# Altium integrated library General.IntLib: 102 symbols (part 3 of 3)
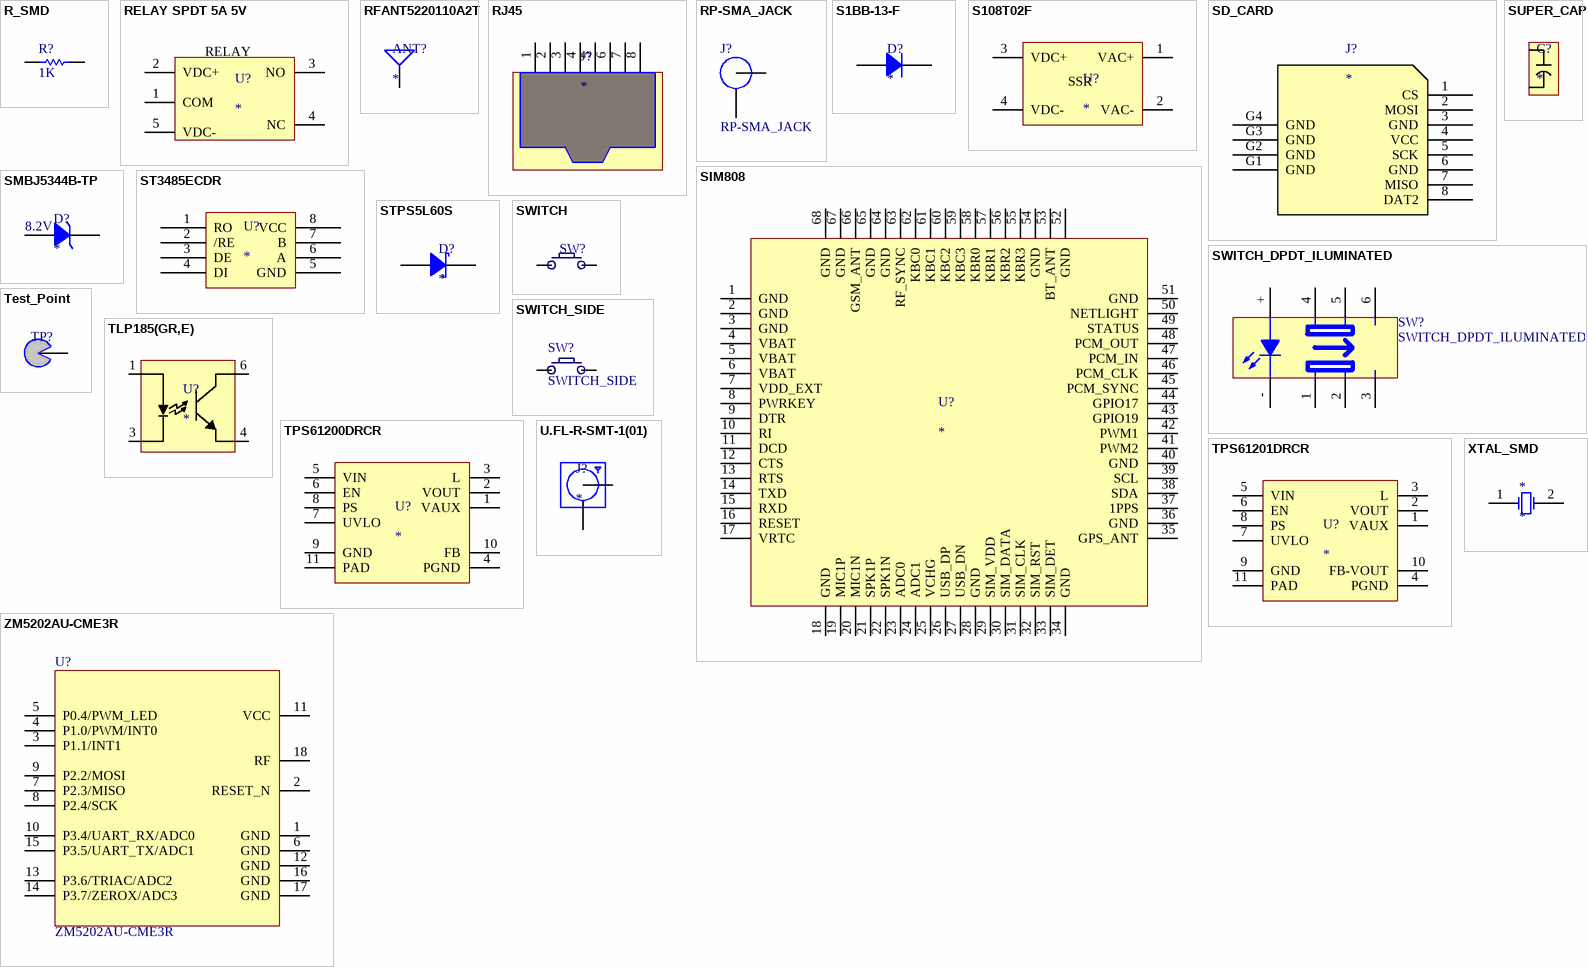
[diagram p5: symbols R_SMD to ZM5202AU-CME3R]

## TPS61200DRCR
designator U?
IC REG BOOST ADJ 1.2A SYNC 10SON; Manufacturer: Texas Instruments; Manufacturer Part Number: TPS61200DRCR; Function: Step-Up; Output Configuration: Positive; Output Type: Adjustable; Number of Outputs: 1; Voltage - Input (Min): 0.3V; Voltage - Input (Max): 5.5V; Voltage - Output (Min/Fixed): 1.8V; Current - Output: 1.2A (Switch); Frequency - Switching: 1.25MHz ~ 1.65MHz; Synchronous Rectifier: Yes; Supplier 1: Digi-Key; RoHS: RoHS Compliant; Category: Integrated Circuits (ICs); Stock 1: 6216; Pricing 1: 1=2.74, 10=2.457, 100=1.971, 500=1.62, 1000=1.125 (USD); Packaging: Cut Tape (CT); Topology: Boost; Voltage - Output (Max): 5.5V; Operating Temperature: -40°C ~ 85°C (TA); Mounting Type: Surface Mount; Package / Case: 10-VFDFN Exposed Pad; Supplier Device Package: 10-VSON (3x3); ComponentLink1URL: http://www.ti.com/lit/ds/symlink/tps61202.pdf; ComponentLink1Description: http://www.ti.com/lit/ds/symlink/tps61202.pdf; Supplier Part Number 1: 296-27017-1-ND
footprint VSON10_M (SON, 10-Leads, Body 3.00x3.00mm, Pitch 0.50mm, Thermal Pad 2.40x1.49mm, IPC Low Density)
pins: 1 VAUX, 2 VOUT, 3 L, 4 PGND, 5 VIN, 6 EN, 7 UVLO, 8 PS, 9 GND, 10 FB, 11 PAD

## TPS61201DRCR
designator U?
IC REG BST 3.3V 1.2A SYNC 10SON; Manufacturer: Texas Instruments; Manufacturer Part Number: TPS61201DRCR; Function: Step-Up; Output Configuration: Positive; Topology: Boost; Output Type: Fixed; Number of Outputs: 1; Voltage - Input (Min): 0.3V; Voltage - Input (Max): 5.5V; Current - Output: 1.2A (Switch); Frequency - Switching: 1.25MHz ~ 1.65MHz; Synchronous Rectifier: Yes; Supplier 1: Digi-Key; RoHS: RoHS Compliant; Category: Integrated Circuits (ICs); Stock 1: 0; Pricing 1: 1=2.74, 10=2.457, 100=1.971, 500=1.62, 1000=1.125 (USD); Packaging: Cut Tape (CT); Voltage - Output (Min/Fixed): 3.3V; Voltage - Output (Max): -; Operating Temperature: -40°C ~ 85°C (TA); Mounting Type: Surface Mount; Package / Case: 10-VFDFN Exposed Pad; Supplier Device Package: 10-VSON (3x3); ComponentLink1URL: http://www.ti.com/lit/ds/symlink/tps61202.pdf; ComponentLink1Description: http://www.ti.com/lit/ds/symlink/tps61202.pdf; Supplier Part Number 1: 296-44338-1-ND
footprint VSON10_M (SON, 10-Leads, Body 3.00x3.00mm, Pitch 0.50mm, Thermal Pad 2.40x1.49mm, IPC Low Density)
pins: 1 VAUX, 2 VOUT, 3 L, 4 PGND, 5 VIN, 6 EN, 7 UVLO, 8 PS, 9 GND, 10 FB-VOUT, 11 PAD

## U.FL-R-SMT-1(01)
designator J?
CONN UMC JACK STR 50 OHM SMD; Manufacturer: Hirose Electric Co Ltd; Manufacturer Part Number: U.FL-R-SMT-1(01); Connector Style: U.FL, Ultra Miniature Coaxial; Connector Type: Receptacle, Male Pin; Contact Termination: Solder; Impedance: 50 Ohm; Frequency - Max: 6GHz; Body Material: Phosphor Bronze; Body Finish: Silver; Center Contact Material: Brass; Center Contact Plating: Gold; Dielectric Material: Liquid Crystal Polymer (LCP); Supplier 1: Digi-Key; RoHS: RoHS Compliant; Category: Connectors, Interconnects; Stock 1: 8912; Pricing 1: 1=1.28, 10=1.122, 25=1.056, 50=1.012, 100=0.968, 250=0.88, 500=0.792, 1000=0.704, 2500=0.638 (USD); Packaging: Bulk; Shield Termination: Solder; Mounting Type: Surface Mount; Cable Group: -; Fastening Type: Snap-On; Features: -; Housing Color: Beige; Ingress Protection: -; Voltage Rating: -; Operating Temperature: -40°C ~ 90°C; ComponentLink1URL: http://media.digikey.com/pdf/Data%20Sheets/Hirose%20PDFs/UFL%20Series.pdf; ComponentLink1Description: http://media.digikey.com/pdf/Data%20Sheets/Hirose%20PDFs/UFL%20Series.pdf; Supplier Part Number 1: H122041-ND
footprint UFL-Hirose
pins: 0 GND, 1 ANTENNA

## XTAL_SMD
designator *
footprint XTAL_SMD-3 (Xtal smd for cilindrical crystal)
pins: 1 OSC1, 2 OSC2

## ZM5202AU-CME3R
designator U?
RF MODULE ZM5202; Manufacturer: Sigma Designs Inc; Frequency: 908MHz; Data Rate (Max): 100kbps; Modulation or Protocol: Z-Wave® / ITU-T G.9959; Power - Output: 1dBm; Sensitivity: -102dBm; Voltage - Supply: 2.3 V ~ 3.6 V; Current - Receiving: 30mA; Current - Transmitting: 36mA @ 0dBm; Data Interface: PCB, Surface Mount; Memory Size: 128kB Flash, 16kB RAM; Supplier 1: Digi-Key; Manufacturer Part Number: ZM5202AU-CME3R; RoHS: RoHS Compliant; Category: RF/IF and RFID; Stock 1: 73256; Pricing 1: 1=12.55, 25=11.5512, 100=10.0621, 500=6.5049 (USD); Packaging: Cut Tape (CT); Applications: General Purpose; Antenna Connector: PCB, Surface Mount; Operating Temperature: -10°C ~ 85°C; Package / Case: Module; ComponentLink1URL: http://z-wave.sigmadesigns.com/docs/brochures/ZM5202_br.pdf; ComponentLink1Description: http://z-wave.sigmadesigns.com/docs/brochures/ZM5202_br.pdf; Supplier Part Number 1: 703-1072-1-ND
footprint ZM5202
pins: 1 GND, 2 RESET_N, 3 P1.1/INT1, 4 P1.0/PWM/INT0, 5 P0.4/PWM_LED, 6 GND, 7 P2.3/MISO, 8 P2.4/SCK, 9 P2.2/MOSI, 10 P3.4/UART_RX/ADC0, 11 VCC, 12 GND, 13 P3.6/TRIAC/ADC2, 14 P3.7/ZEROX/ADC3, 15 P3.5/UART_TX/ADC1, 16 GND, 17 GND, 18 RF


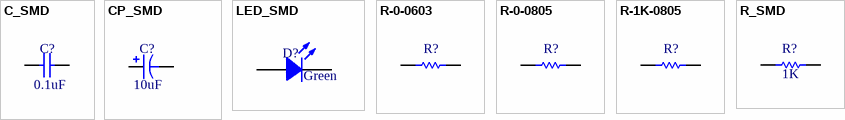
[diagram p3: symbols C_SMD to R_SMD]

## C_SMD
designator C?, comment 0.1uF
Value: 0.1uF
footprint C0603_L (Chip Capacitor, 2-Leads, Body 1,60x0,80mm, IPC High Density)
footprint C0603_M (Chip Capacitor, 2-Leads, Body 1,60x0,80mm, IPC Low Density)
footprint C0603_N (Chip Capacitor, 2-Leads, Body 1,60x0,80mm, IPC Medium Density)
footprint C0805_L (Chip Capacitor, 2-Leads, Body 2,00x1,25mm, IPC High Density)
footprint C0805_M (Chip Capacitor, 2-Leads, Body 2,00x1,25mm, IPC Low Density)
footprint C0805_N (Chip Capacitor, 2-Leads, Body 2,00x1,25mm, IPC Medium Density)
footprint C1206_L (Chip Capacitor, 2-Leads, Body 3,20x1,60mm, IPC High Density)
footprint C1206_M (Chip Capacitor, 2-Leads, Body 3,20x1,60mm, IPC Low Density)
footprint C1206_N (Chip Capacitor, 2-Leads, Body 3,20x1,60mm, IPC Medium Density)
pins: 1, 2

## CP_SMD
designator C?, comment 10uF
Value: 10uF
footprint C_TANT_A_3216_L (Molded Capacitor, 2-Leads, Body 3,20x1,60mm, IPC High Density)
footprint C_TANT_A_3216_M (Molded Capacitor, 2-Leads, Body 3,20x1,60mm, IPC Low Density)
footprint C_TANT_A_3216_N (Molded Capacitor, 2-Leads, Body 3,20x1,60mm, IPC Medium Density)
pins: 1, 2

## LED_SMD
designator D?, comment Green
Color: Green
footprint R0603_L (Chip Resistor, 2-Leads, Body 1,60x0,85mm, IPC High Density)
footprint R0603_M (Chip Resistor, 2-Leads, Body 1,60x0,85mm, IPC Low Density)
footprint R0603_N (Chip Resistor, 2-Leads, Body 1,60x0,85mm, IPC Medium Density)
footprint R0805_L (Chip Resistor, 2-Leads, Body 2,00x1,25mm, IPC High Density)
footprint R0805_M (Chip Resistor, 2-Leads, Body 2,00x1,25mm, IPC Low Density)
footprint R0805_N (Chip Resistor, 2-Leads, Body 2,00x1,25mm, IPC Medium Density)
footprint R1206_L (Chip Resistor, 2-Leads, Body 3,13x1,55mm, IPC High Density)
footprint R1206_M (Chip Resistor, 2-Leads, Body 3,13x1,60mm, IPC Low Density)
footprint R1206_N (Chip Resistor, 2-Leads, Body 3,13x1,55mm, IPC Medium Density)
pins: 1 A, 2 K

## R-0-0603
designator R?
RES 0.0 OHM 1/10W JUMP 0603; Manufacturer: Samsung Electro-Mechanics America, Inc; Manufacturer Part Number: RC1608J000CS; Tolerance: Jumper; Power (Watts): 0.1W, 1/10W; Resistance (Ohms): 0.0; Supplier 1: Digi-Key; RoHS: RoHS Compliant; Category: Resistors; Stock 1: 10000; Pricing 1: 5000=0.00078, 10000=0.00068, 25000=0.00059, 50000=0.00055, 125000=0.00053 (USD); Packaging: Tape & Reel (TR); Composition: Thick Film; Features: -; Temperature Coefficient: -; Package / Case: 0603 (1608 Metric); Supplier Device Package: 0603 (1608 Metric); Size / Dimension: 0.063" L x 0.031" W (1.60mm x 0.80mm); Height: 0.022" (0.55mm); Number of Terminations: 2; ComponentLink1URL: http://www.samsungsem.com/servlet/FileDownload?filename=productcatalog/pdf/Chip_Resistor.pdf; ComponentLink1Description: http://www.samsungsem.com/servlet/FileDownload?filename=productcatalog/pdf/Chip_Resistor.pdf; Supplier Part Number 1: 1276-3510-2-ND
footprint R0603_L (Chip Resistor, 2-Leads, Body 1,60x0,85mm, IPC High Density)
footprint R0603_M (Chip Resistor, 2-Leads, Body 1,60x0,85mm, IPC Low Density)
footprint R0603_N (Chip Resistor, 2-Leads, Body 1,60x0,85mm, IPC Medium Density)
pins: 1, 2

## R-0-0805
designator R?
RES 0.0 OHM 1/8W JUMP 0805 SMD; Manufacturer: Panasonic Electronic Components; Manufacturer Part Number: ERJ-6GEY0R00V; Tolerance: Jumper; Power (Watts): 0.125W, 1/8W; Resistance (Ohms): 0.0; Supplier 1: Digi-Key; RoHS: RoHS Compliant; Category: Resistors; Stock 1: 2420000; Pricing 1: 5000=0.00323, 10000=0.00281, 25000=0.00247, 50000=0.00226, 125000=0.00222 (USD); Packaging: Tape & Reel (TR); Composition: Thick Film; Features: -; Temperature Coefficient: -; Package / Case: 0805 (2012 Metric); Supplier Device Package: 0805; Size / Dimension: 0.079" L x 0.049" W (2.00mm x 1.25mm); Height: 0.028" (0.70mm); Number of Terminations: 2; ComponentLink1URL: http://industrial.panasonic.com/www-cgi/jvcr13pz.cgi?E+PZ+3+AOA0001+ERJ6GEY0R00V+7+WW; ComponentLink1Description: http://industrial.panasonic.com/www-cgi/jvcr13pz.cgi?E+PZ+3+AOA0001+ERJ6GEY0R00V+7+WW; Supplier Part Number 1: P0.0ATR-ND
footprint R0805_L (Chip Resistor, 2-Leads, Body 2,00x1,25mm, IPC High Density)
footprint R0805_M (Chip Resistor, 2-Leads, Body 2,00x1,25mm, IPC Low Density)
footprint R0805_N (Chip Resistor, 2-Leads, Body 2,00x1,25mm, IPC Medium Density)
pins: 1, 2

## R-1K-0805
designator R?
RES 1K OHM 1/8W 5% 0805 SMD; Manufacturer: Panasonic Electronic Components; Manufacturer Part Number: ERJ-6GEYJ102V; Power (Watts): 0.125W, 1/8W; Temperature Coefficient: ±200ppm/°C; Supplier 1: Digi-Key; RoHS: RoHS Compliant; Category: Resistors; Stock 1: 1230000; Pricing 1: 5000=0.00323, 10000=0.00281, 25000=0.00247, 50000=0.00226, 125000=0.00222 (USD); Packaging: Tape & Reel (TR); Tolerance: ±5%; Composition: Thick Film; Features: -; Package / Case: 0805 (2012 Metric); Supplier Device Package: 0805; Size / Dimension: 0.079" L x 0.049" W (2.00mm x 1.25mm); Height: 0.028" (0.70mm); Number of Terminations: 2; ComponentLink1URL: http://industrial.panasonic.com/www-cgi/jvcr13pz.cgi?E+PZ+3+AOA0001+ERJ6GEYJ102V+7+WW; ComponentLink1Description: http://industrial.panasonic.com/www-cgi/jvcr13pz.cgi?E+PZ+3+AOA0001+ERJ6GEYJ102V+7+WW; Supplier Part Number 1: P1.0KATR-ND; Resistance (Ohms): 1k
footprint R0805_L (Chip Resistor, 2-Leads, Body 2,00x1,25mm, IPC High Density)
footprint R0805_M (Chip Resistor, 2-Leads, Body 2,00x1,25mm, IPC Low Density)
footprint R0805_N (Chip Resistor, 2-Leads, Body 2,00x1,25mm, IPC Medium Density)
pins: 1, 2

## R_SMD
designator R?  value 1K  (hidden comment: *)
footprint R0603_L (Chip Resistor, 2-Leads, Body 1,60x0,85mm, IPC High Density)
footprint R0603_M (Chip Resistor, 2-Leads, Body 1,60x0,85mm, IPC Low Density)
footprint R0603_N (Chip Resistor, 2-Leads, Body 1,60x0,85mm, IPC Medium Density)
footprint R0805_L (Chip Resistor, 2-Leads, Body 2,00x1,25mm, IPC High Density)
footprint R0805_M (Chip Resistor, 2-Leads, Body 2,00x1,25mm, IPC Low Density)
footprint R0805_N (Chip Resistor, 2-Leads, Body 2,00x1,25mm, IPC Medium Density)
footprint R1206_L (Chip Resistor, 2-Leads, Body 3,13x1,55mm, IPC High Density)
footprint R1206_M (Chip Resistor, 2-Leads, Body 3,13x1,60mm, IPC Low Density)
footprint R1206_N (Chip Resistor, 2-Leads, Body 3,13x1,55mm, IPC Medium Density)
pins: 1, 2